# Altium footprint library DX07S024WJ3R400.PcbLib: 1 footprints
Each footprint in its own frame and in the unit in brackets; x right, y up, seen from the top. Pads: shape width x height; smd on the part's side, far side on the other; paste and mask are expansions set on the pad; w line width, h text height; cw(c..) or ccw(c..) is an arc to the next point about the centre after c.
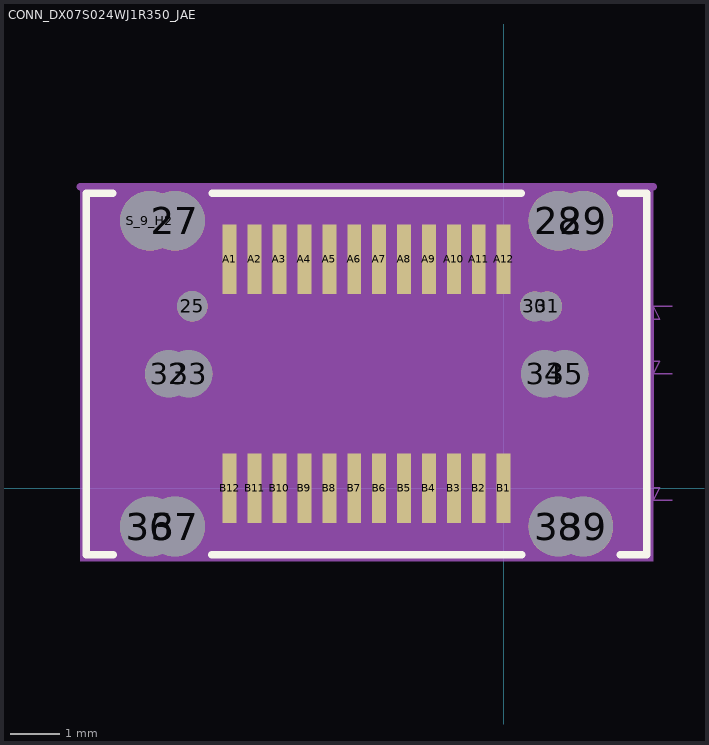
[diagram p0: the footprint, top view; thin cyan lines are the x and y axes]

## CONN_DX07S024WJ1R350_JAE [mil]
pads (39):
  round 24 hole 24: 25(-246.06,143.78)
  round 47.24 hole 47.24: 27(-259.84,211.42) 28(43.3,211.42) 29(62.99,211.42) 36(-279.53,-30.24) 37(-259.84,-30.24) 38(43.3,-30.24) 39(62.99,-30.24) S_9_H2(-279.53,211.42)
  round 23.62 hole 23.62: 30(24.61,143.78) 31(34.45,143.78)
  round 37.4 hole 37.4: 32(-264.76,90.55) 33(-249.01,90.55) 34(32.48,90.55) 35(48.23,90.55)
  rect 11x55 smd paste+0 mask+0: A1(-216.54,181.1) A2(-196.85,181.1) A3(-177.17,181.1) A4(-157.48,181.1) A5(-137.8,181.1) A6(-118.11,181.1) A7(-98.43,181.1) A8(-78.74,181.1) A9(-59.06,181.1) A10(-39.37,181.1) A11(-19.68,181.1) A12(0,181.1) B1(0,0) B2(-19.68,0) B3(-39.37,0) B4(-59.06,0) B5(-78.74,0) B6(-98.43,0) B7(-118.11,0) B8(-137.8,0) B9(-157.48,0) B10(-177.17,0) B11(-196.85,0) B12(-216.54,0)
Top Overlay:
  lines w6: -308.98,233.35 -329.77,233.35 -329.77,-52.65 -308.61,-52.65 ; -230.76,-52.65 14.22,-52.65 ; -230.39,233.35 13.85,233.35 ; 92.08,-52.65 113.23,-52.65 113.23,233.35 92.45,233.35
Bottom Overlay:
  circle w20: c-354.77,181.1 r15
Mechanical 7:
  lines w1: -269.69,90.55 133.21,90.55 ; -246.06,-9.45 133.21,-9.45 ; -246.06,143.78 133.21,143.78 ; 118.21,-9.45 118.21,143.78 ; 118.21,-9.45 113.21,0.55 123.2,0.55 118.21,-9.45 ; 118.21,143.78 123.21,133.78 113.21,133.78 118.21,143.78 ; 113.21,100.55 118.21,90.55 123.2,100.55 113.21,100.55
Mechanical 13:
  lines w1: -324.77,-47.65 108.23,-47.65 108.23,228.35 -324.77,228.35 -324.77,-47.65
Mechanical 15:
  region: 118.23,238.35 -334.77,238.35 -334.77,-57.65 118.23,-57.65
  region: 108.23,228.35 -324.77,228.35 -324.77,-47.65 108.23,-47.65
  lines w6: -334.77,238.35 118.23,238.35
Multi-Layer:
  lines w23.62: 24.61,143.78 34.45,143.78
  lines w37.4: -264.76,90.55 -249.01,90.55 ; 32.48,90.55 48.23,90.55
  lines w47.24: -279.53,-30.24 -259.84,-30.24 ; -279.53,211.42 -259.84,211.42 ; 43.3,-30.24 62.99,-30.24 ; 43.3,211.42 62.99,211.42
3D body: height 10, standoff 0, extent 0,0 10,10